# Altium footprint library Connector.PCBLIB: 82 footprints (part 5 of 6)
Each footprint in its own frame and in the unit in brackets; x right, y up, seen from the top. Pads: shape width x height; smd on the part's side, far side on the other; paste and mask are expansions set on the pad; w line width, h text height; cw(c..) or ccw(c..) is an arc to the next point about the centre after c.
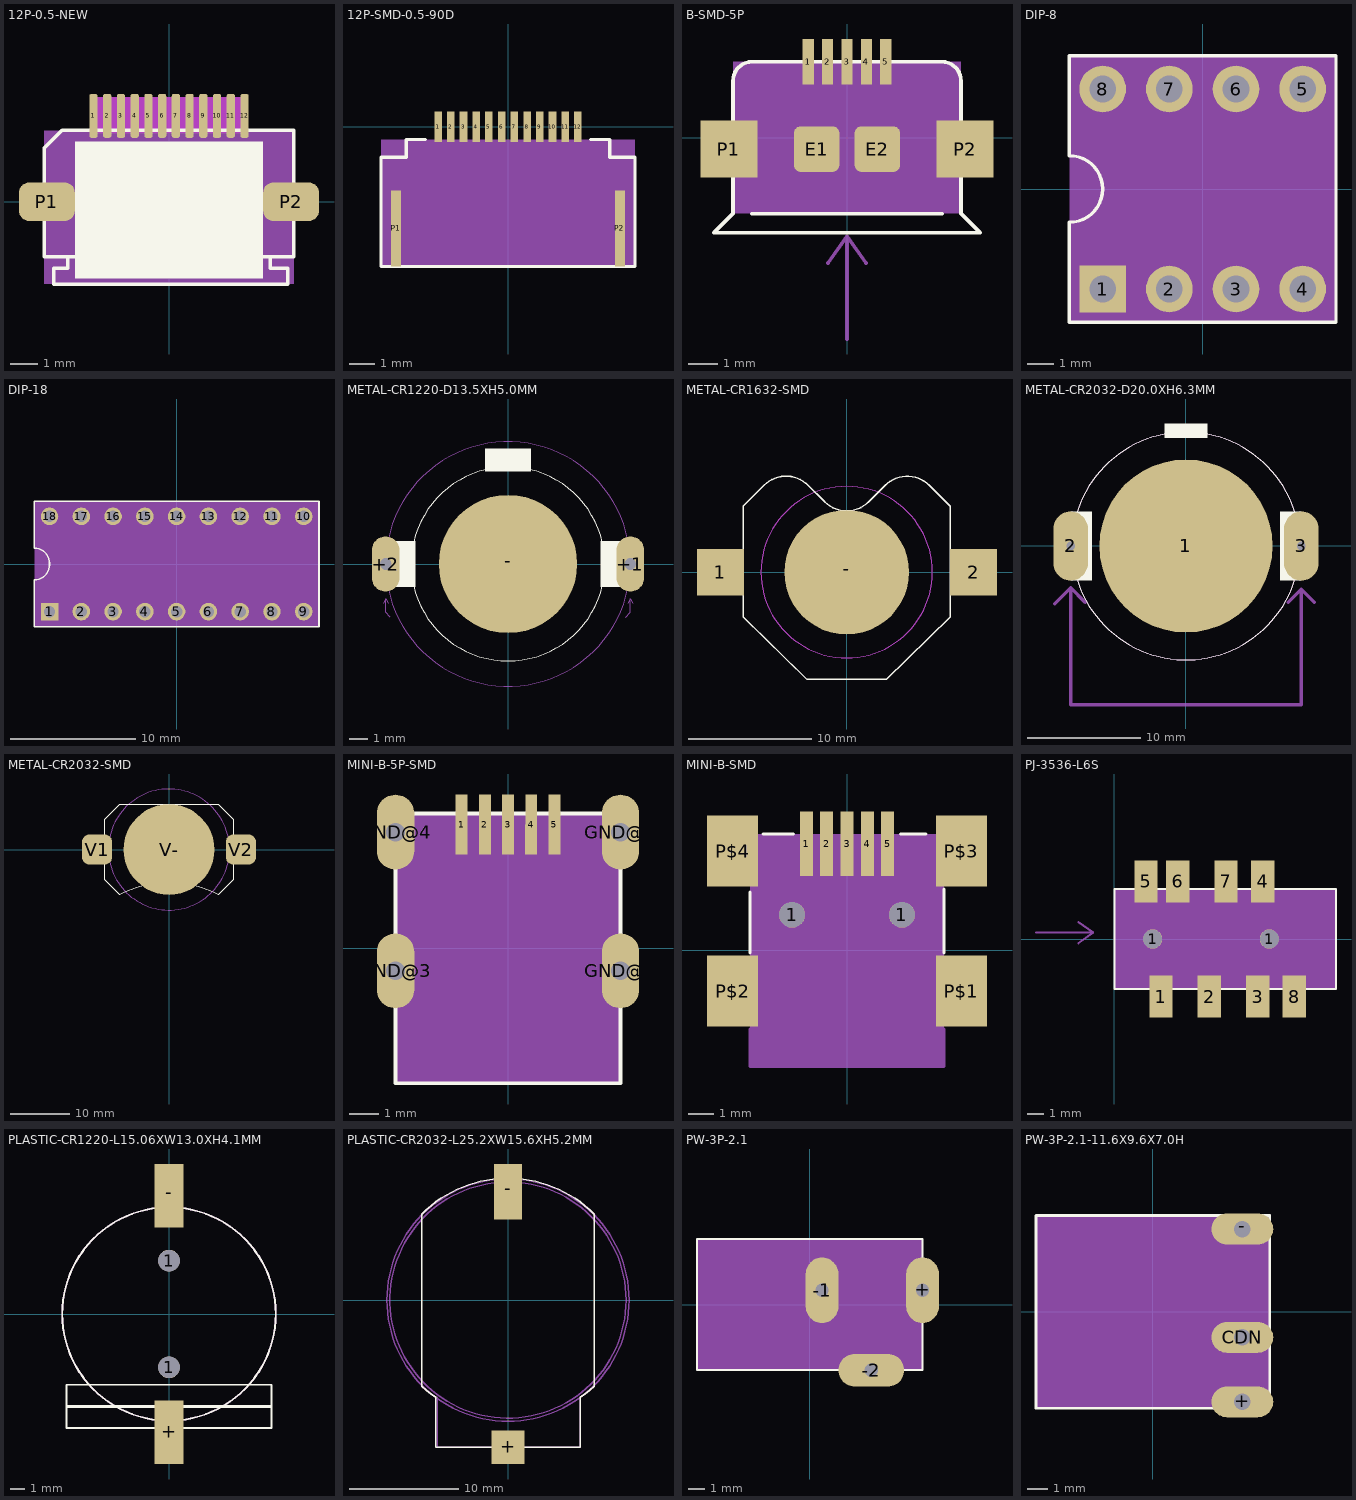
[diagram p4: the footprints below, top view; thin cyan lines are the x and y axes]

## 12P-0.5-NEW [mil]
pads (14):
  rrect50% 11.81x62.99 smd: 1(-108.27,123.11) 2(-88.58,123.11) 3(-68.9,123.11) 4(-49.21,123.11) 5(-29.53,123.11) 6(-9.84,123.11) 7(9.84,123.11) 8(29.53,123.11) 9(49.21,123.11) 10(68.9,123.11) 11(88.58,123.11) 12(108.27,123.11)
  rrect50% 80x55 smd: P1(-175,0) P2(175,0)
Top Overlay:
  rectangle: -135,-110 135,86.61
  lines w5: -165,-118.11 -165,-95 -145,-95 -145,-80 ; -164.13,-118.11 169.13,-118.11 ; 145,-80 145,-95 170,-95 170,-118.11 ; -179.13,-78.74 -179.13,76.53 -153.3,102.36 179.13,102.36 179.13,-78.74 -179.13,-78.74
Mechanical 8 keep-out:
  rectangle: -112.5,97.5 112.5,150
Mechanical 27:
  rectangle: -179.13,-118.11 179.13,102.36

## 12P-SMD-0.5-90D [mm]
pads (14):
  rect 0.3x1.2 smd: 1(-2.75,0) 2(-2.25,0) 3(-1.75,0) 4(-1.25,0) 5(-0.75,0) 6(-0.25,0) 7(0.25,0) 8(0.75,0) 9(1.25,0) 10(1.75,0) 11(2.25,0) 12(2.75,0)
  rect 0.4x3 smd: P1(-4.4,-4) P2(4.4,-4)
Top Overlay:
  lines w0.127: -3.25,-0.5 -4,-0.5 -4,-1.2 -5,-1.2 -5,-5.5 5,-5.5 5,-1.2 4,-1.2 4,-0.5 3.25,-0.5
Mechanical 27:
  rectangle: -5,-5.5 5,-0.5

## B-SMD-5P [mil]
pads (9):
  rect 14.96x59.84 smd: 1(-51.18,100) 2(-25.59,100) 3(0,100) 4(25.59,100) 5(51.18,100)
  rrect30% 60x60 smd: E1(-40,-15) E2(40,-15)
  rect 74.8x74.8 smd: P1(-155.51,-15) P2(155.51,-15)
Top Overlay:
  lines w5: -125,-100 125,-100 ; -175,-125 -150,-100 -150,75 cw(c-125,75) -125,100 125,100 cw(c125,75) 150,75 150,-100 175,-125 -175,-125
Mechanical 11:
  region: 0,0 10,0 10,10 0,10
  lines w5: -25,-165 0,-130 ; 0,-265 0,-130 ; 25,-165 0,-130
  text "The place have a bulge ," at 4.25,-280 h54.25
  text "please place it out of board." at -50,-280 h54.25
Mechanical 27:
  rectangle: -150,-100 150,100

## DIP-8 [mil]
pads (8):
  rect 70x70 hole 40: 1(-150,-150)
  round 70 hole 40: 2(-50,-150) 3(50,-150) 4(150,-150) 5(150,150) 6(50,150) 7(-50,150) 8(-150,150)
Top Overlay:
  lines w5: -200,-200 -200,-50 ccw(c-200,0) -150,0 ccw(c-200,0) -200,50 -200,200 200,200 200,-200 -200,-200
Mechanical 27:
  rectangle: -200,-200 200,200

## DIP-18 [mil]
pads (18):
  rect 55.12x55.12 hole 35.43: 1(-400,-150)
  round 55.12 hole 35.43: 2(-300,-150) 3(-200,-150) 4(-100,-150) 5(0,-150) 6(100,-150) 7(200,-150) 8(300,-150) 9(400,-150) 10(400,150) 11(300,150) 12(200,150) 13(100,150) 14(0,150) 15(-100,150) 16(-200,150) 17(-300,150) 18(-400,150)
Top Overlay:
  lines w5: -448.03,-196.85 448.03,-196.85 448.03,196.85 -448.03,196.85 -448.03,50 cw(c-448.03,1.97) -400,1.97 -400,-1.97 cw(c-448.03,-1.97) -448.03,-50 -448.03,-196.85
Mechanical 27:
  rectangle: -448.03,-196.85 448.03,196.85

## METAL-CR1220-D13.5XH5.0MM [mil]
pads (3):
  oval 60x120 hole 25: +1(265,0) +2(-265,0)
  rrect100% 300x300 smd: -(0,0)
Top Overlay:
  circle w0: c0,0 r210
  rectangle: -50,200 50,250
  rectangle: -250,-50 -200,50
  rectangle: 200,-50 250,50
Mechanical 11:
  region: 0,0 10,0 10,10 0,10
  region: 0,0 10,0 10,10 0,10
  lines w1: -270,-85 -265,-75 ; -260,-85 -265,-75 ; -255,-115 -265,-105 -265,-75 ; 255,-115 265,-105 265,-75 ; 260,-85 265,-75 ; 270,-85 265,-75
  text "slot drill with copper" at -275,-145 h49.6
Mechanical 27:
  circle w0: c0,0 r265

## METAL-CR1632-SMD [mil]
pads (3):
  rect 150x150 smd: 1(-405,0) 2(407,0)
  rrect100% 400x400 smd: -(0,0)
Top Overlay:
  lines w5: -332,-144 -332,211.83 -265.13,278.71 cw(c-194.42,208) -123.71,278.71 -70.71,225.71 ccw(c0,296.42) 70.71,225.71 123.55,278.55 cw(c194.26,207.84) 264.97,278.55 332,211.52 332,-144 127,-344 -127,-344 -332,-144
Mechanical 8 keep-out:
  circle w0: c0,0 r275

## METAL-CR2032-D20.0XH6.3MM [mil]
pads (3):
  rrect100% 600x600 smd: 1(0,0)
  oval 120x240 hole 30: 2(-400,0) 3(400,0)
Top Overlay:
  circle w0: c0,0 r395
  rectangle: -400,-120 -325,120
  rectangle: 325,-120 400,120
  rectangle: -75,375 75,425
Mechanical 11:
  lines w12: -455,-200 -400,-145 ; -350,-195 -400,-145 ; 355,-195 400,-150 ; 445,-195 400,-150 ; -400,-145 -400,-550 400,-550 400,-150
  lines w30: -400,-75 -400,75 ; 400,-75 400,75
  text "slot drills with copper" at -275,-620 h54.25
Mechanical 27:
  circle w0: c0,0 r395

## METAL-CR2032-SMD [mil]
pads (3):
  rrect50% 200x200 smd: V1(-475,0) V2(475,0)
  rrect100% 600x600 smd: V-(0,0)
Top Overlay:
  lines w5: -425,-200 -325,-300 cw(c0,-900) 325,-300 425,-200 425,200 325,300 -325,300 -425,200 -425,-200
Mechanical 27:
  circle w0.09: c0,0 r400

## MINI-B-5P-SMD [mil]
pads (9):
  rect 16x80 smd: 1(-62,165) 2(-31,165) 3(0,165) 4(31,165) 5(62,165)
  oval 50x100 hole 25: GND@1(150,155) GND@2(150,-30) GND@3(-150,-30) GND@4(-150,155)
Top Overlay:
  lines w5: -150,-180 150,-180 150,180 -150,180 -150,-180
Mechanical 11:
  region: 0,0 10,0 10,10 0,10
  region: 0,0 10,0 10,10 0,10
  region: 0,0 10,0 10,10 0,10
  region: 0,0 10,0 10,10 0,10
  lines w5: -112.5,5 -25,55 -112.5,117.5 ; 112.5,5 25,55 112.5,117.5
  text "4 Slot drills with copper" at -12.5,105 h38.75
Mechanical 27:
  rectangle: -150,-180 150,180

## MINI-B-SMD [mil]
pads (11):
  round 40 hole 40: 1(-85,55) 1(85,55)
  rect 20x100 smd: 1(-62.99,165) 2(-31.5,165) 3(0,165) 4(31.5,165) 5(62.99,165)
  rect 78.74x110 smd: P$1(177.17,-63.11) P$2(-177.17,-63.11) P$3(177.17,153.43) P$4(-177.17,153.43)
Top Overlay:
  lines w5: -150,-4.06 -150,90.43 ; -129.92,180 -82.68,180 ; 82.68,180 122.05,180 ; 150,-4.06 150,94.37
Mechanical 16:
  lines w5: -150,-122.17 -150,-180 150,-180 150,-122.17
Mechanical 27:
  region: 150,-180 150,180 -150,180 -150,-180

## PJ-3536-L6S [mm]
pads (10):
  round 1.149 hole 1.149: 1(2.3,0) 1(9.3,0)
  rect 1.4x2.5 smd: 1(2.8,-3.45) 2(5.7,-3.45) 3(8.6,-3.45) 4(8.9,3.45) 5(1.9,3.45) 6(3.8,3.45) 7(6.7,3.45) 8(10.8,-3.45)
Top Overlay:
  lines w0.127: 0,-3 0,3 13.3,3 13.3,-3 0,-3
Mechanical 11:
  region: 0,0 0.254,0 0.254,0.254 0,0.254
  lines w0.127: -4.699,0.381 -1.27,0.381 ; -2.159,-0.254 -1.27,0.381 ; -2.159,1.016 -1.27,0.381
  text "The place have a bulge ," at -5.08,0.273 h1.38
  text "please place it out of board." at -5.08,1.651 h1.38
Mechanical 27:
  rectangle: 0,-3 13.3,3

## PLASTIC-CR1220-L15.06XW13.0XH4.1MM [mm]
pads (4):
  round 1.5 hole 1.5: 1(0,-3.7) 1(0,3.7)
  rect 2x4.4 smd: +(0,-8.2) -(0,8.2)
Top Overlay:
  circle w0.127: c0,0 r7.4
  rectangle: -7.1,-6.5 7.1,-6.3
  lines w0.127: -7.1,-7.9 7.1,-7.9 7.1,-4.9 -7.1,-4.9 -7.1,-7.9
Mechanical 27:
  circle w0.127: c0,0 r7.4

## PLASTIC-CR2032-L25.2XW15.6XH5.2MM [mil]
pads (2):
  rect 120x120 smd: +(0,-530)
  rect 100x200 smd: -(0,390)
Top Overlay:
  lines w5: -310,-310 -310,310 cw(c0,0) 310,310 310,-310 cw(c21,0) 260,-350 260,-530 -260,-530 -260,-350 cw(c-21,0) -310,-310
Mechanical 14:
  circle w5: c0,0 r436
Mechanical 27:
  circle w5: c0,0 r425
  lines w5: -260,-350 -255,-350 -255,-530 260,-530 260,-355

## PW-3P-2.1 [mil]
pads (3):
  oval 80x160 hole 32: +(275,35) -1(30,35)
  oval 160x80 hole 32: -2(150,-160)
Top Overlay:
  lines w5: -275,-160 275,-160 275,160 -275,160 -275,-160
Bottom Overlay:
  circle w5: c400,-15 r26.93
  circle w5: c400,-15 r7.07
  circle w5: c400,-155 r29.15
  circle w5: c400,165 r29.15
  circle w5: c400,-15 r26.93
  circle w5: c400,-15 r7.07
  circle w5: c400,-155 r29.15
  circle w5: c400,165 r29.15
  lines w5: 380,-155 420,-155 ; 390,-60 400,-45 ; 390,60 400,45 ; 400,-175 400,-135 ; 400,-125 400,-45 ; 400,135 400,45 ; 400,145 400,185 ; 410,-60 400,-45 ; 410,60 400,45 ; 400,-20 400,-10 ; 400,-20 395,-15 400,-10 ; 400,-20 405,-15 400,-10 ; 360,-55 cw(c400,-15) 440,-55 ccw(c400,-15) 360,-55
Mechanical 11:
  region: 0,0 10,0 10,10 0,10
  region: 0,0 10,0 10,10 0,10
  region: 0,0 10,0 10,10 0,10
  lines w5: 100,25 80,35 ; 100,45 80,35 ; 140,-90 150,-110 ; 150,-70 150,-110 ; 150,-40 150,35 ; 160,-90 150,-110 ; 205,25 225,35 ; 205,45 225,35 ; 80,35 150,35 ; 150,35 225,35
  text "3 Slot Drills with copper" at -225,-65 h37.2
Mechanical 27:
  rectangle: -275,-160 275,160
  lines w0: -275,160 275,160

## PW-3P-2.1-11.6X9.6X7.0H [mil]
pads (3):
  oval 120x60 hole 32: +(173.62,-174.21) -(173.62,160.79) CDN(173.62,-49.21)
Top Overlay:
  lines w5: -226.38,-187.01 226.38,-187.01 226.38,187.01 -226.38,187.01 -226.38,-187.01
Bottom Overlay:
  circle w5: c298.62,-24.21 r26.93
  circle w5: c298.62,-24.21 r7.07
  circle w5: c298.62,-164.21 r29.15
  circle w5: c298.62,155.79 r29.15
  circle w5: c298.62,-24.21 r26.93
  circle w5: c298.62,-24.21 r7.07
  circle w5: c298.62,-164.21 r29.15
  circle w5: c298.62,155.79 r29.15
  lines w5: 278.62,-164.21 318.62,-164.21 ; 288.62,-69.21 298.62,-54.21 ; 288.62,50.79 298.62,35.79 ; 298.62,-184.21 298.62,-144.21 ; 298.62,-134.21 298.62,-54.21 ; 298.62,125.79 298.62,35.79 ; 298.62,135.79 298.62,175.79 ; 308.62,-69.21 298.62,-54.21 ; 308.62,50.79 298.62,35.79 ; 298.62,-29.21 298.62,-19.21 ; 298.62,-29.21 293.62,-24.21 298.62,-19.21 ; 298.62,-29.21 303.62,-24.21 298.62,-19.21 ; 258.62,-64.21 cw(c298.62,-24.21) 338.62,-64.21 ccw(c298.62,-24.21) 258.62,-64.21
Mechanical 1:
  lines w1: -100.39,-57.09 ccw(c-92.52,-57.09) -92.52,-64.96 -37.4,-64.96 ccw(c-37.4,-57.09) -29.53,-57.09 -29.53,-1.97 ccw(c-37.41,-1.97) -37.4,5.91 -92.52,5.91 ccw(c-92.52,-1.97) -100.39,-1.97 -100.39,-57.09
Mechanical 11:
  region: 0,0 10,0 10,10 0,10
  region: 0,0 10,0 10,10 0,10
  region: 0,0 10,0 10,10 0,10
  lines w5: 58.62,-174.21 113.62,-174.21 ; 58.62,-49.21 113.62,-49.21 ; 58.62,160.79 113.62,160.79 ; 93.62,-184.21 113.62,-174.21 ; 93.62,-164.21 113.62,-174.21 ; 93.62,-59.21 113.62,-49.21 ; 93.62,-39.21 113.62,-49.21 ; 93.62,150.79 113.62,160.79 ; 93.62,170.79 113.62,160.79
  text "3 Slot drills with copper" at 23.62,300.79 h49.6
Mechanical 27:
  region: -226.38,187.01 -226.38,-187.01 226.38,-187.01 226.38,187.01